# Altium schematic symbol library 1N4733G_R0G.SchLib: 1 symbol
Pins are listed as number, name and electrical type; pins without a type are passive.

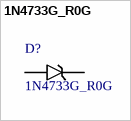
[diagram p0: symbol 1N4733G_R0G]

## 1N4733G_R0G
designator D?
Check_prices: https://www.snapeda.com/parts/1N4733G%20R0G/Taiwan+Semiconductor/view-part/?ref=eda; SnapEDA_Link: https://www.snapeda.com/parts/1N4733G%20R0G/Taiwan+Semiconductor/view-part/?ref=snap; Value: *
footprint *DIOAD1060W70L435D230_1N4733G_R0G(Primary)
pins: A, C K